# Altium footprint library TE_AMP_796387.PcbLib: 1 footprints
Each footprint in its own frame and in the unit in brackets; x right, y up, seen from the top. Pads: shape width x height; smd on the part's side, far side on the other; paste and mask are expansions set on the pad; w line width, h text height; cw(c..) or ccw(c..) is an arc to the next point about the centre after c.
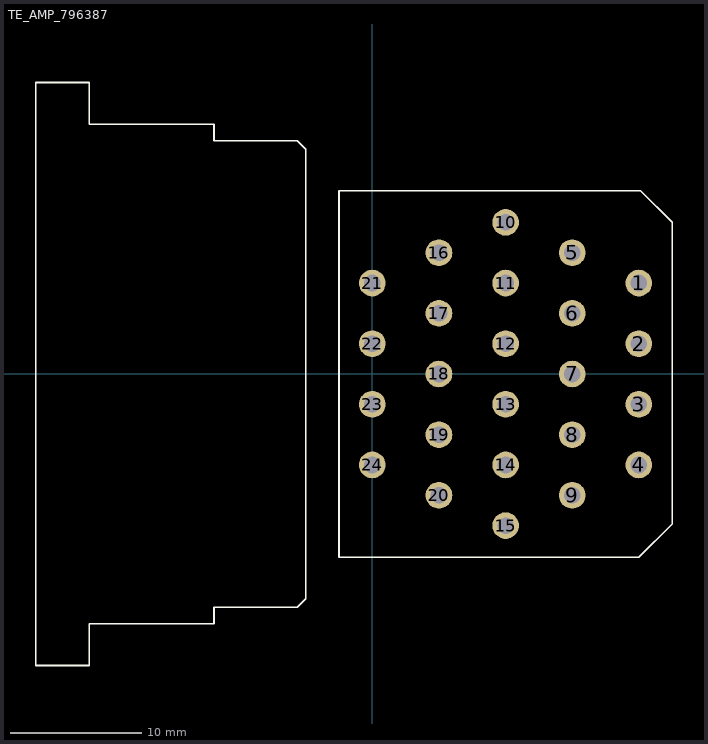
[diagram p0: the footprint, top view; thin cyan lines are the x and y axes]

## TE_AMP_796387 [mil]
pads (24):
  round 80 hole 50: 1(800,273) 2(800,91) 3(800,-91) 4(800,-273) 5(600,364) 6(600,182) 7(600,0) 8(600,-182) 9(600,-364) 10(400,455) 11(400,273) 12(400,91) 13(400,-91) 14(400,-273) 15(400,-455) 16(200,364) 17(200,182) 18(200,0) 19(200,-182) 20(200,-364) 21(0,273) 22(0,91) 23(0,-91) 24(0,-273)
Top Overlay:
  lines w5: -1010,-875 -850,-875 -850,-750 -475,-750 -475,-700 -225,-700 -200,-675 -200,625 -200,675 -225,700 -475,700 -475,750 -850,750 -850,875 -1010,875 -1010,-875 ; -100,-550 -100,550 805,550 900,455 900,-450 800,-550 -100,-550